# EAGLE library part RFM22 (library SparkFun-RF)
Hope RF RFM22 ISM Transciever Module The RFM22 is a low-power, low cost radio that is capable of operating in the 434MHz and 900MHz open bands. It's frequency is software defined and there are some very good libraries written for it. SparkFun Products SparkFun RFM22 Shield - 434MHz <https://www.sparkfun.com/products/11018> (DEV-11018)
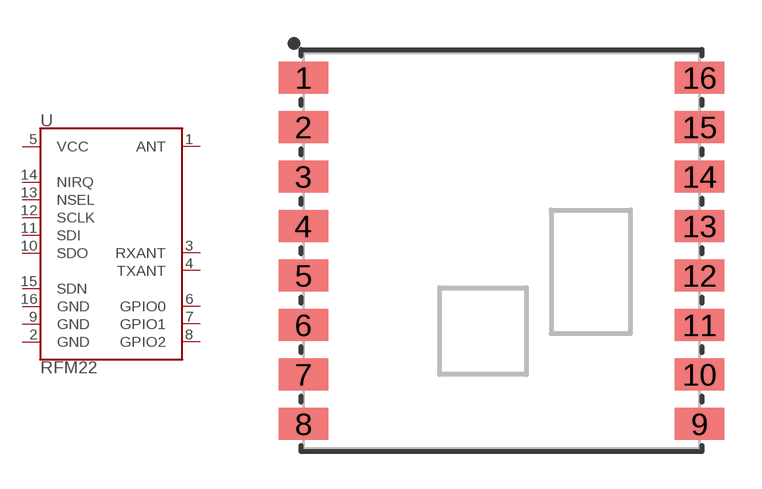
[diagram p14: symbol with the pads of RFM22-XXX-S2; footprint RFM22-XXX-S2]

Designator prefix -

## RFM22434MHZ (PROD_ID: IC-10007; SF_ID: WRL-10153; VALUE: 434MHz)  [RFM22-XXX-S2]
1  ANT
2  GND  pwr
3  RXANT  in
4  TXANT  in
5  VCC
6  GPIO0
7  GPIO1
8  GPIO2
9  GND  pwr
10  SDO  out
11  SDI  in
12  SCLK  in
13  NSEL  in
14  NIRQ  out
15  SDN  in
16  GND  pwr

## RFM22915MHZ (PROD_ID: IC-11750; SF_ID: WRL-12030; VALUE: 915MHz)  [RFM22-XXX-S2]
Pads as for RFM22-XXX-S2

## Footprint RFM22-XXX-S2 (pad centres in mm)
Hope RF RFM22 RF Transceiver Package for Hope RF s RFM22-xxx-S2 SMD wireless transciever, xxx is module s frequency band. SparkFun Link (915MHz) <https://www.sparkfun.com/products/12030> SparkFun Link (433 MHz) <https://www.sparkfun.com/products/12770> Datasheet <https://www.sparkfun.com/datasheets/Wireless/General/RFM22.PDF>
smd 2 x 1.3: 1 -8,7; 2 -8,5; 3 -8,3; 4 -8,1; 5 -8,-1; 6 -8,-3; 7 -8,-5; 8 -8,-7; 9 8,-7; 10 8,-5; 11 8,-3; 12 8,-1; 13 8,1; 14 8,3; 15 8,5; 16 8,7